# Altium footprint library parts.PCBLIB: 11 footprints
Each footprint in its own frame and in the unit in brackets; x right, y up, seen from the top. Pads: shape width x height; smd on the part's side, far side on the other; paste and mask are expansions set on the pad; w line width, h text height; cw(c..) or ccw(c..) is an arc to the next point about the centre after c.
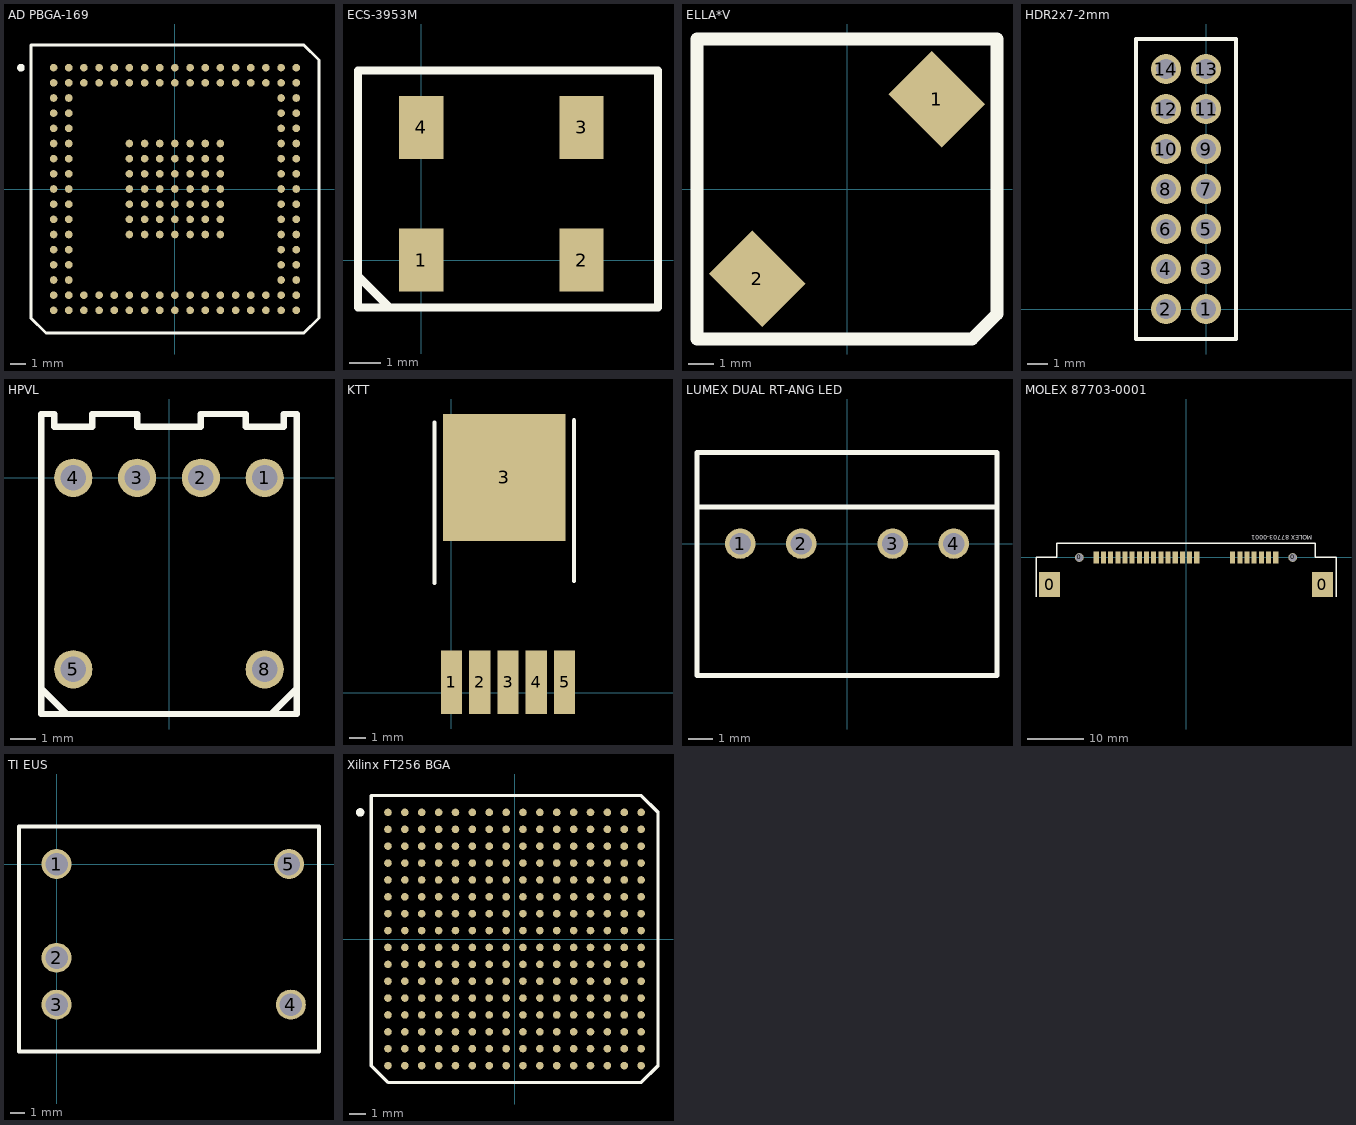
[diagram p0: the footprints below, top view; thin cyan lines are the x and y axes]

## AD PBGA-169 [mm] "BGA, Mini Plastic; 169 Balls; Body 19 x 19 mm; Pitch 1 mm"
height 2.5
pads (169):
  round 0.5 smd: A1(-8,8) A2(-7,8) A3(-6,8) A4(-5,8) A5(-4,8) A6(-3,8) A7(-2,8) A8(-1,8) A9(0,8) A10(1,8) A11(2,8) A12(3,8) A13(4,8) A14(5,8) A15(6,8) A16(7,8) A17(8,8) B1(-8,7) B2(-7,7) B3(-6,7) B4(-5,7) B5(-4,7) B6(-3,7) B7(-2,7) B8(-1,7) B9(0,7) B10(1,7) B11(2,7) B12(3,7) B13(4,7) B14(5,7) B15(6,7) B16(7,7) B17(8,7) C1(-8,6) C2(-7,6) C16(7,6) C17(8,6) D1(-8,5) D2(-7,5) D16(7,5) D17(8,5) E1(-8,4) E2(-7,4) E16(7,4) E17(8,4) F1(-8,3) F2(-7,3) F6(-3,3) F7(-2,3) F8(-1,3) F9(0,3) F10(1,3) F11(2,3) F12(3,3) F16(7,3) F17(8,3) G1(-8,2) G2(-7,2) G6(-3,2) G7(-2,2) G8(-1,2) G9(0,2) G10(1,2) G11(2,2) G12(3,2) G16(7,2) G17(8,2) H1(-8,1) H2(-7,1) H6(-3,1) H7(-2,1) H8(-1,1) H9(0,1) H10(1,1) H11(2,1) H12(3,1) H16(7,1) H17(8,1) J1(-8,0) J2(-7,0) J6(-3,0) J7(-2,0) J8(-1,0) J9(0,0) J10(1,0) J11(2,0) J12(3,0) J16(7,0) J17(8,0) K1(-8,-1) K2(-7,-1) K6(-3,-1) K7(-2,-1) K8(-1,-1) K9(0,-1) K10(1,-1) K11(2,-1) K12(3,-1) K16(7,-1) K17(8,-1) L1(-8,-2) L2(-7,-2) L6(-3,-2) L7(-2,-2) L8(-1,-2) L9(0,-2) L10(1,-2) L11(2,-2) L12(3,-2) L16(7,-2) L17(8,-2) M1(-8,-3) M2(-7,-3) M6(-3,-3) M7(-2,-3) M8(-1,-3) M9(0,-3) M10(1,-3) M11(2,-3) M12(3,-3) M16(7,-3) M17(8,-3) N1(-8,-4) N2(-7,-4) N16(7,-4) N17(8,-4) P1(-8,-5) P2(-7,-5) P16(7,-5) P17(8,-5) R1(-8,-6) R2(-7,-6) R16(7,-6) R17(8,-6) T1(-8,-7) T2(-7,-7) T3(-6,-7) T4(-5,-7) T5(-4,-7) T6(-3,-7) T7(-2,-7) T8(-1,-7) T9(0,-7) T10(1,-7) T11(2,-7) T12(3,-7) T13(4,-7) T14(5,-7) T15(6,-7) T16(7,-7) T17(8,-7) U1(-8,-8) U2(-7,-8) U3(-6,-8) U4(-5,-8) U5(-4,-8) U6(-3,-8) U7(-2,-8) U8(-1,-8) U9(0,-8) U10(1,-8) U11(2,-8) U12(3,-8) U13(4,-8) U14(5,-8) U15(6,-8) U16(7,-8) U17(8,-8)
Top Overlay:
  circle w0.25: c-10.155,8 r0.125
  lines w0.2: -9.5,-8.5 -9.5,9.5 8.5,9.5 9.5,8.5 9.5,-8.5 8.5,-9.5 -8.5,-9.5 -9.5,-8.5

## ECS-3953M [mm] "ECS SMD CLOCK OSCILLATOR"
pads (4):
  rect 1.4x2 smd: 1(0,0) 2(5.08,0) 3(5.08,4.2) 4(0,4.2)
Top Overlay:
  lines w0.254: -2,-0.5 -1,-1.5 ; -2,-1.5 -2,6 7.5,6 7.5,-1.5 -2,-1.5

## ELLA*V [mm] "Chip choke coil  Panasonic ELLATV type"
height 4
pads (2):
  rect 3x2.45 smd rot 135: 1(3.592,3.592) 2(-3.592,-3.592)
Top Overlay:
  lines w0.508: -6,-6 5,-6 6,-5 6,6 -6,6 -6,-6

## HDR2x7-2mm [mm]
pads (14):
  round 1.5 hole 1: 1(0,0) 2(-2,0) 3(0,2) 4(-2,2) 5(0,4) 6(-2,4) 7(0,6) 8(-2,6) 9(0,8) 10(-2,8) 11(0,10) 12(-2,10) 13(0,12) 14(-2,12)
Top Overlay:
  lines w0.2: -3.5,-1.5 -3.5,13.5 1.5,13.5 1.5,-1.5 -3.5,-1.5

## HPVL [mil]
pads (6):
  round 60 hole 40: 1(150,0) 2(50,0) 3(-50,0) 4(-150,0) 5(-150,-300) 8(150,-300)
Top Overlay:
  lines w10: -200,-340 -200,0 ; -200,-330 -160,-370 ; -200,-300 -200,-370 200,-370 200,-340 200,0 200,100 180,100 180,80 120,80 120,100 50,100 50,80 -50,80 -50,100 -120,100 -120,80 -180,80 -180,100 -200,100 -200,-10 ; 160,-370 200,-330

## KTT [mil] "TI DDPAK-5"
pads (6):
  rect 50x150 smd: 1(0,25) 2(67,25) 3(134,25) 4(201,25) 5(268,25)
  rect 290x300 smd: 3(125,510)
Top Overlay:
  lines w10: -40,260 -40,640 ; 290,265 290,645

## LUMEX DUAL RT-ANG LED [mil] "Lumex Dual Right-angle LED holder for part SSF-LXH2100XX"
pads (4):
  round 50 hole 35: 1(-175.2,0) 2(-75,0) 3(75,0) 4(175.2,0)
Top Overlay:
  lines w8: -246.06,60 246.06,60 ; -246.06,-216.54 -246.06,149.61 246.06,149.61 246.06,-216.54 -246.06,-216.54

## MOLEX 87703-0001 [mm] "Molex 1.27mm pitch SATA device plug, 2.5\" drive, without jumper, 22 circuits"
pads (26):
  rect 3.66x4.4 smd: 0(-24.15,-4.8) 0(24.15,-4.8)
  round 1.524 hole 1.346: 0(-18.865,0) 0(18.865,0)
  rect 0.9x2.1 smd: 1(15.875,0) 2(14.605,0) 3(13.335,0) 4(12.065,0) 5(10.795,0) 6(9.525,0) 7(8.255,0) P1(1.905,0) P2(0.635,0) P3(-0.635,0) P4(-1.905,0) P5(-3.175,0) P6(-4.445,0) P7(-5.715,0) P8(-6.985,0) P9(-8.255,0) P10(-9.525,0) P11(-10.795,0) P12(-12.065,0) P13(-13.335,0) P14(-14.605,0) P15(-15.875,0)
Top Overlay:
  lines w0.254: -26.543,-6.985 -26.543,0 -22.86,0 -22.86,2.54 0,2.54 22.86,2.54 22.86,0 26.543,0 26.543,-6.985
  text "MOLEX 87703-0001" at 22.352,3.937 h0.76

## PCBComponent_1 [mm]

## TI EUS [mil] "Package for TI PTH03000W"
pads (5):
  round 80 hole 60: 1(0,0) 2(0,-250) 3(0,-375) 4(625,-375) 5(620,0)
Top Overlay:
  lines w10: -100,-500 700,-500 700,100 -100,100 -100,-500

## Xilinx FT256 BGA [mm] "Xilinx BGA"
height 3.5
pads (256):
  round 0.45 smd mask+0.05: A1(-7.5,7.5) A2(-6.5,7.5) A3(-5.5,7.5) A4(-4.5,7.5) A5(-3.5,7.5) A6(-2.5,7.5) A7(-1.5,7.5) A8(-0.5,7.5) A9(0.5,7.5) A10(1.5,7.5) A11(2.5,7.5) A12(3.5,7.5) A13(4.5,7.5) A14(5.5,7.5) A15(6.5,7.5) A16(7.5,7.5) B1(-7.5,6.5) B2(-6.5,6.5) B3(-5.5,6.5) B4(-4.5,6.5) B5(-3.5,6.5) B6(-2.5,6.5) B7(-1.5,6.5) B8(-0.5,6.5) B9(0.5,6.5) B10(1.5,6.5) B11(2.5,6.5) B12(3.5,6.5) B13(4.5,6.5) B14(5.5,6.5) B15(6.5,6.5) B16(7.5,6.5) C1(-7.5,5.5) C2(-6.5,5.5) C3(-5.5,5.5) C4(-4.5,5.5) C5(-3.5,5.5) C6(-2.5,5.5) C7(-1.5,5.5) C8(-0.5,5.5) C9(0.5,5.5) C10(1.5,5.5) C11(2.5,5.5) C12(3.5,5.5) C13(4.5,5.5) C14(5.5,5.5) C15(6.5,5.5) C16(7.5,5.5) D1(-7.5,4.5) D2(-6.5,4.5) D3(-5.5,4.5) D4(-4.5,4.5) D5(-3.5,4.5) D6(-2.5,4.5) D7(-1.5,4.5) D8(-0.5,4.5) D9(0.5,4.5) D10(1.5,4.5) D11(2.5,4.5) D12(3.5,4.5) D13(4.5,4.5) D14(5.5,4.5) D15(6.5,4.5) D16(7.5,4.5) E1(-7.5,3.5) E2(-6.5,3.5) E3(-5.5,3.5) E4(-4.5,3.5) E5(-3.5,3.5) E6(-2.5,3.5) E7(-1.5,3.5) E8(-0.5,3.5) E9(0.5,3.5) E10(1.5,3.5) E11(2.5,3.5) E12(3.5,3.5) E13(4.5,3.5) E14(5.5,3.5) E15(6.5,3.5) E16(7.5,3.5) F1(-7.5,2.5) F2(-6.5,2.5) F3(-5.5,2.5) F4(-4.5,2.5) F5(-3.5,2.5) F6(-2.5,2.5) F7(-1.5,2.5) F8(-0.5,2.5) F9(0.5,2.5) F10(1.5,2.5) F11(2.5,2.5) F12(3.5,2.5) F13(4.5,2.5) F14(5.5,2.5) F15(6.5,2.5) F16(7.5,2.5) G1(-7.5,1.5) G2(-6.5,1.5) G3(-5.5,1.5) G4(-4.5,1.5) G5(-3.5,1.5) G6(-2.5,1.5) G7(-1.5,1.5) G8(-0.5,1.5) G9(0.5,1.5) G10(1.5,1.5) G11(2.5,1.5) G12(3.5,1.5) G13(4.5,1.5) G14(5.5,1.5) G15(6.5,1.5) G16(7.5,1.5) H1(-7.5,0.5) H2(-6.5,0.5) H3(-5.5,0.5) H4(-4.5,0.5) H5(-3.5,0.5) H6(-2.5,0.5) H7(-1.5,0.5) H8(-0.5,0.5) H9(0.5,0.5) H10(1.5,0.5) H11(2.5,0.5) H12(3.5,0.5) H13(4.5,0.5) H14(5.5,0.5) H15(6.5,0.5) H16(7.5,0.5) J1(-7.5,-0.5) J2(-6.5,-0.5) J3(-5.5,-0.5) J4(-4.5,-0.5) J5(-3.5,-0.5) J6(-2.5,-0.5) J7(-1.5,-0.5) J8(-0.5,-0.5) J9(0.5,-0.5) J10(1.5,-0.5) J11(2.5,-0.5) J12(3.5,-0.5) J13(4.5,-0.5) J14(5.5,-0.5) J15(6.5,-0.5) J16(7.5,-0.5) K1(-7.5,-1.5) K2(-6.5,-1.5) K3(-5.5,-1.5) K4(-4.5,-1.5) K5(-3.5,-1.5) K6(-2.5,-1.5) K7(-1.5,-1.5) K8(-0.5,-1.5) K9(0.5,-1.5) K10(1.5,-1.5) K11(2.5,-1.5) K12(3.5,-1.5) K13(4.5,-1.5) K14(5.5,-1.5) K15(6.5,-1.5) K16(7.5,-1.5) L1(-7.5,-2.5) L2(-6.5,-2.5) L3(-5.5,-2.5) L4(-4.5,-2.5) L5(-3.5,-2.5) L6(-2.5,-2.5) L7(-1.5,-2.5) L8(-0.5,-2.5) L9(0.5,-2.5) L10(1.5,-2.5) L11(2.5,-2.5) L12(3.5,-2.5) L13(4.5,-2.5) L14(5.5,-2.5) L15(6.5,-2.5) L16(7.5,-2.5) M1(-7.5,-3.5) M2(-6.5,-3.5) M3(-5.5,-3.5) M4(-4.5,-3.5) M5(-3.5,-3.5) M6(-2.5,-3.5) M7(-1.5,-3.5) M8(-0.5,-3.5) M9(0.5,-3.5) M10(1.5,-3.5) M11(2.5,-3.5) M12(3.5,-3.5) M13(4.5,-3.5) M14(5.5,-3.5) M15(6.5,-3.5) M16(7.5,-3.5) N1(-7.5,-4.5) N2(-6.5,-4.5) N3(-5.5,-4.5) N4(-4.5,-4.5) N5(-3.5,-4.5) N6(-2.5,-4.5) N7(-1.5,-4.5) N8(-0.5,-4.5) N9(0.5,-4.5) N10(1.5,-4.5) N11(2.5,-4.5) N12(3.5,-4.5) N13(4.5,-4.5) N14(5.5,-4.5) N15(6.5,-4.5) N16(7.5,-4.5) P1(-7.5,-5.5) P2(-6.5,-5.5) P3(-5.5,-5.5) P4(-4.5,-5.5) P5(-3.5,-5.5) P6(-2.5,-5.5) P7(-1.5,-5.5) P8(-0.5,-5.5) P9(0.5,-5.5) P10(1.5,-5.5) P11(2.5,-5.5) P12(3.5,-5.5) P13(4.5,-5.5) P14(5.5,-5.5) P15(6.5,-5.5) P16(7.5,-5.5) R1(-7.5,-6.5) R2(-6.5,-6.5) R3(-5.5,-6.5) R4(-4.5,-6.5) R5(-3.5,-6.5) R6(-2.5,-6.5) R7(-1.5,-6.5) R8(-0.5,-6.5) R9(0.5,-6.5) R10(1.5,-6.5) R11(2.5,-6.5) R12(3.5,-6.5) R13(4.5,-6.5) R14(5.5,-6.5) R15(6.5,-6.5) R16(7.5,-6.5) T1(-7.5,-7.5) T2(-6.5,-7.5) T3(-5.5,-7.5) T4(-4.5,-7.5) T5(-3.5,-7.5) T6(-2.5,-7.5) T7(-1.5,-7.5) T8(-0.5,-7.5) T9(0.5,-7.5) T10(1.5,-7.5) T11(2.5,-7.5) T12(3.5,-7.5) T13(4.5,-7.5) T14(5.5,-7.5) T15(6.5,-7.5) T16(7.5,-7.5)
Top Overlay:
  circle w0.25: c-9.15,7.5 r0.125
  lines w0.2: -8.5,-7.5 -8.5,8.5 7.5,8.5 8.5,7.5 8.5,-7.5 7.5,-8.5 -7.5,-8.5 -8.5,-7.5